# Altium schematic symbol library TPS7A2133PQWDRBRQ1.SchLib: 1 symbol
Pins are listed as number, name and electrical type; pins without a type are passive.

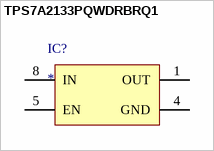
[diagram p0: symbol TPS7A2133PQWDRBRQ1]

## TPS7A2133PQWDRBRQ1
designator IC?
footprint VSON8
pins: 1 OUT, 4 GND, 5 EN, 8 IN